# Altium footprint library MBoard.PcbLib: 16 footprints
Each footprint in its own frame and in the unit in brackets; x right, y up, seen from the top. Pads: shape width x height; smd on the part's side, far side on the other; paste and mask are expansions set on the pad; w line width, h text height; cw(c..) or ccw(c..) is an arc to the next point about the centre after c.
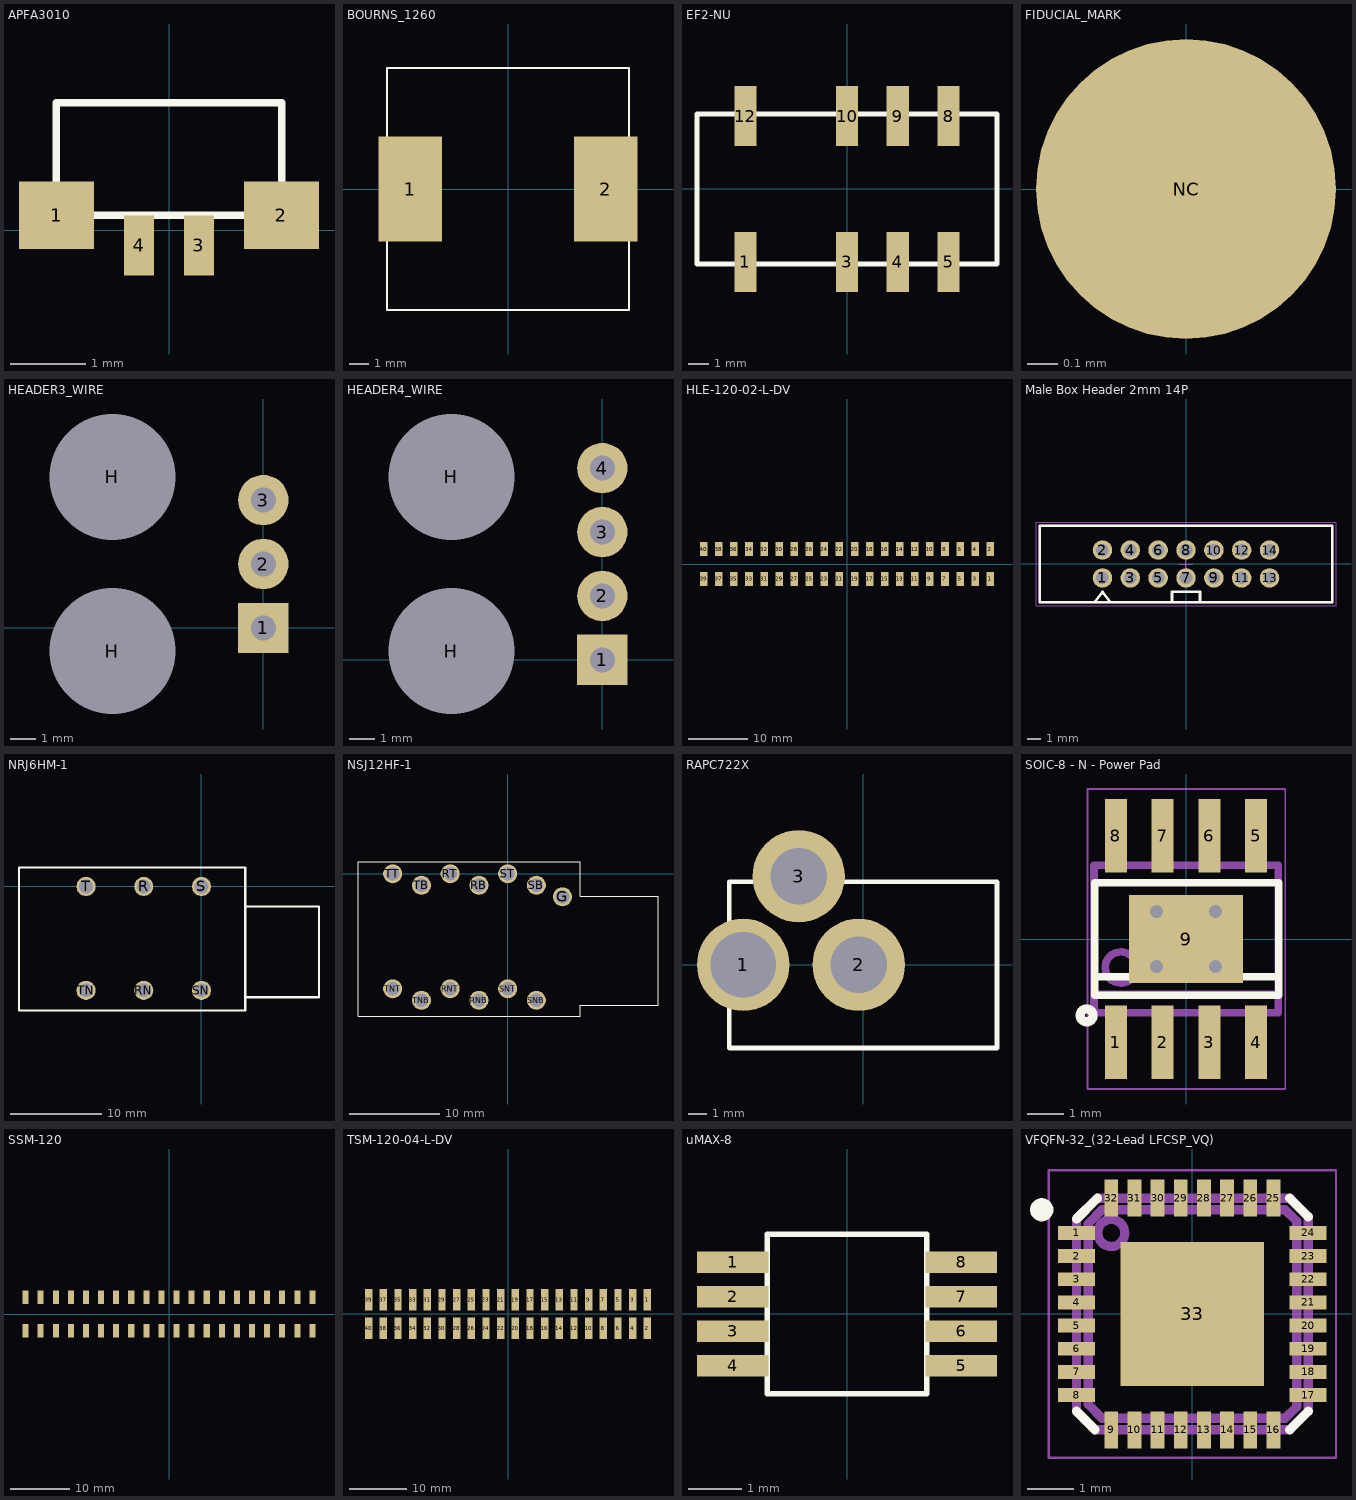
[diagram p0: the footprints below, top view; thin cyan lines are the x and y axes]

## APFA3010 [mm] "LED RGB R/A"
pads (4):
  rect 1x0.9 smd paste+0: 1(-1.5,0.2) 2(1.5,0.2)
  rect 0.4x0.8 smd paste+0: 3(0.4,-0.2) 4(-0.4,-0.2)
Top Overlay:
  lines w0.1: -1.5,0.2 -1.5,1.703 1.5,1.703 1.5,0.2 -1.5,0.2
3D body "APFA3010.STEP": height 1, standoff 0, extent -1.5,0.2 1.5,1.703

## BOURNS_1260 [mm]
pads (2):
  rect 3.3x5.4 smd paste+0: 1(-5.05,0) 2(5.05,0)
Top Overlay:
  lines w0.1: -6.25,-6.25 6.25,-6.25 6.25,6.25 -6.25,6.25 -6.25,-6.25
3D body: height 6.5, standoff 0, extent -6.25,-6.25 6.25,6.25

## EF2-NU [mm]
pads (8):
  rect 1.11x3 smd paste+0: 1(-5.08,-3.645) 3(0,-3.645) 4(2.54,-3.645) 5(5.08,-3.645) 8(5.08,3.645) 9(2.54,3.645) 10(0,3.645) 12(-5.08,3.645)
Top Overlay:
  lines w0.254: -7.5,-3.75 7.5,-3.75 7.5,3.75 -7.5,3.75 -7.5,-3.75
3D body: height 10, standoff 0, extent -7.5,-3.75 7.5,3.75

## FIDUCIAL_MARK [mm] "Fiducial Mark for automated assembly"
pads (1):
  round 1 smd paste-1 mask+0.5: NC(0,0)

## HEADER3_WIRE [mm]
pads (5):
  rect 2x2 hole 1: 1(0,0)
  round 2 hole 1: 2(0,2.54) 3(0,5.08)
  round 2 hole 5 unplated paste+0: H(-6,-0.92) H(-6,6)

## HEADER4_WIRE [mm]
pads (6):
  rect 2x2 hole 1: 1(0,0)
  round 2 hole 1: 2(0,2.54) 3(0,5.08) 4(0,7.62)
  round 2 hole 5 unplated paste+0: H(-6,0.35) H(-6,7.27)

## HLE-120-02-L-DV [mm]
pads (40):
  rect 1.27x2.29 smd paste+0: 1(24.13,-2.525) 2(24.13,2.525) 3(21.59,-2.525) 4(21.59,2.525) 5(19.05,-2.525) 6(19.05,2.525) 7(16.51,-2.525) 8(16.51,2.525) 9(13.97,-2.525) 10(13.97,2.525) 11(11.43,-2.525) 12(11.43,2.525) 13(8.89,-2.525) 14(8.89,2.525) 15(6.35,-2.525) 16(6.35,2.525) 17(3.81,-2.525) 18(3.81,2.525) 19(1.27,-2.525) 20(1.27,2.525) 21(-1.27,-2.525) 22(-1.27,2.525) 23(-3.81,-2.525) 24(-3.81,2.525) 25(-6.35,-2.525) 26(-6.35,2.525) 27(-8.89,-2.525) 28(-8.89,2.525) 29(-11.43,-2.525) 30(-11.43,2.525) 31(-13.97,-2.525) 32(-13.97,2.525) 33(-16.51,-2.525) 34(-16.51,2.525) 35(-19.05,-2.525) 36(-19.05,2.525) 37(-21.59,-2.525) 38(-21.59,2.525) 39(-24.13,-2.525) 40(-24.13,2.525)
3D body "HLE-120-02-L-DV.stp": height 3.51, standoff -0.15, extent -25.4,-3.3 25.4,3.279

## Male Box Header 2mm 14P [mm] "Male Box Header 14 poles - Pitch 2mm"
height 5.6
pads (14):
  round 1.4 hole 0.9: 1(-6,-1) 2(-6,1) 3(-4,-1) 4(-4,1) 5(-2,-1) 6(-2,1) 7(0,-1) 8(0,1) 9(2,-1) 10(2,1) 11(4,-1) 12(4,1) 13(6,-1) 14(6,1)
Top Overlay:
  lines w0.2: -6.5,-2.65 -6,-2 -5.5,-2.65 ; -1,-2.65 -1,-2 1,-2 1,-2.65 ; -10.5,-2.75 -10.5,2.75 10.5,2.75 10.5,-2.75 -10.5,-2.75
Mechanical 11:
  lines w0.2: -10.5,-2.75 10.5,-2.75 10.5,2.75 -10.5,2.75 -10.5,-2.75
  text ".designator" at -5,-0.25 h1
Mechanical 13:
  lines w0.2: -10.5,-2.75 -10.5,2.75 10.5,2.75 10.5,-2.75 -10.5,-2.75
Mechanical 15:
  lines w0.05: -0.5,0 0.5,0 ; 0,-0.5 0,0.5 ; -10.775,-3 10.775,-3 10.775,3 -10.775,3 -10.775,-3
3D body "Würth Male Box Header_14P_62501421621.stp": height 5.6, standoff -2.8, extent -10.6,-2.75 10.6,2.75

## NRJ6HM-1 [mm] "Neutronik Jack 6.35mm"
pads (6):
  round 2.1 hole 1.5: R(-6.35,0) RN(-6.35,-11.43) S(0,0) SN(0,-11.43) T(-12.7,0) TN(-12.7,-11.43)
Top Overlay:
  lines w0.254: 4.8,-12.2 12.925,-12.2 12.925,-2.2 4.8,-2.2 ; -20.075,-13.655 -20.075,2.095 4.8,2.095 4.8,-13.655 -20.075,-13.655
3D body "3D+File+NRJ6HM-1.stp": height 12.7, standoff -4, extent -20.075,-13.655 12.925,2.095

## NSJ12HF-1 [mm] "Neutronik Stacked Jack 6.35mm"
pads (13):
  round 2.1 hole 1.5: G(6.05,-2.54) RB(-3.17,-1.27) RNB(-3.17,-13.97) RNT(-6.35,-12.7) RT(-6.35,0) SB(3.174,-1.27) SNB(3.174,-13.97) SNT(0,-12.7) ST(0,0) TB(-9.52,-1.27) TNB(-9.52,-13.97) TNT(-12.7,-12.7) TT(-12.7,0)
Top Overlay:
  lines w0.1: -16.528,-15.709 -16.528,1.3 8,1.3 8,-2.5 16.6,-2.5 16.6,-14.5 8,-14.5 8,-15.709 -16.528,-15.709
3D body "3D+File+NSJ12HF-1.stp": height 31.75, standoff -4, extent -16.528,-15.709 16.372,1.291

## RAPC722X [mm]
pads (3):
  round 5 hole 3.56: 1(-6.49,0)
  round 5 hole 3.05: 2(-0.24,0) 3(-3.49,4.8)
Top Overlay:
  lines w0.254: -7.25,-4.5 -7.25,4.5 7.25,4.5 7.25,-4.5 ; -7.24,-4.5 7.235,-4.5
3D body: height 11, standoff 0, extent -7.25,-4.5 7.235,4.5

## SOIC-8 - N - Power Pad [mm] "SOIC-8 / Body 5x4x1.75mm / Pitch 1.27mm  / 8 Pins"
height 0.025
pads (9):
  rect 0.6x2 smd: 1(-1.905,-2.8) 2(-0.635,-2.8) 3(0.635,-2.8) 4(1.905,-2.8) 5(1.905,2.8) 6(0.635,2.8) 7(-0.635,2.8) 8(-1.905,2.8)
  rect 3.1x2.4 smd: 9(0,0)
via -0.8,-0.75 diameter 0.8 hole 0.35
via 0.8,-0.75 diameter 0.8 hole 0.35
via 0.8,0.75 diameter 0.8 hole 0.35
via -0.8,0.75 diameter 0.8 hole 0.35
Top Overlay:
  circle w0.25: c-2.7,-2.075 r0.175
  lines w0.203: -2.425,-1.025 2.475,-1.025 ; -2.48,-1.525 -2.48,1.525 2.52,1.525 2.52,-1.525 -2.48,-1.525
Mechanical 11:
  circle w0.203: c-1.774,-0.775 r0.424
  lines w0.203: -2.495,-1.5 2.5,-1.5 ; -2.5,-2 -2.5,2 2.5,2 2.5,-2 -2.5,-2
  text ".Designator" at -3.6,-0.325 h1
Mechanical 13:
  circle w0.203: c-1.769,-0.775 r0.424
  lines w0.203: -2.49,-1.5 2.505,-1.5 ; -2.495,-2 2.505,-2 2.505,2 -2.495,2 -2.495,-2
Mechanical 15:
  lines w0.05: -0.5,0 0.5,0 ; 0,-0.5 0,0.5 ; -2.68,-4.075 -2.68,4.075 2.695,4.075 2.695,-4.075 -2.68,-4.075
3D body "SOIC-8 - N.STEP": height 1.7, standoff 0, extent -2.45,-3 2.45,3

## SSM-120 [mm]
pads (40):
  rect 1.02x2.22 smd paste+0: 1(24.13,-2.825) 2(24.13,2.825) 3(21.59,-2.825) 4(21.59,2.825) 5(19.05,-2.825) 6(19.05,2.825) 7(16.51,-2.825) 8(16.51,2.825) 9(13.97,-2.825) 10(13.97,2.825) 11(11.43,-2.825) 12(11.43,2.825) 13(8.89,-2.825) 14(8.89,2.825) 15(6.35,-2.825) 16(6.35,2.825) 17(3.81,-2.825) 18(3.81,2.825) 19(1.27,-2.825) 20(1.27,2.825) 21(-1.27,-2.825) 22(-1.27,2.825) 23(-3.81,-2.825) 24(-3.81,2.825) 25(-6.35,-2.825) 26(-6.35,2.825) 27(-8.89,-2.825) 28(-8.89,2.825) 29(-11.43,-2.825) 30(-11.43,2.825) 31(-13.97,-2.825) 32(-13.97,2.825) 33(-16.51,-2.825) 34(-16.51,2.825) 35(-19.05,-2.825) 36(-19.05,2.825) 37(-21.59,-2.825) 38(-21.59,2.825) 39(-24.13,-2.825) 40(-24.13,2.825)
3D body "SSM-120-S-DV.stp": height 7.37, standoff -0.05, extent -25.4,-3.525 25.4,3.51

## TSM-120-04-L-DV [mm]
pads (40):
  rect 1.27x3.68 smd paste+0: 1(24.13,2.475) 2(24.13,-2.475) 3(21.59,2.475) 4(21.59,-2.475) 5(19.05,2.475) 6(19.05,-2.475) 7(16.51,2.475) 8(16.51,-2.475) 9(13.97,2.475) 10(13.97,-2.475) 11(11.43,2.475) 12(11.43,-2.475) 13(8.89,2.475) 14(8.89,-2.475) 15(6.35,2.475) 16(6.35,-2.475) 17(3.81,2.475) 18(3.81,-2.475) 19(1.27,2.475) 20(1.27,-2.475) 21(-1.27,2.475) 22(-1.27,-2.475) 23(-3.81,2.475) 24(-3.81,-2.475) 25(-6.35,2.475) 26(-6.35,-2.475) 27(-8.89,2.475) 28(-8.89,-2.475) 29(-11.43,2.475) 30(-11.43,-2.475) 31(-13.97,2.475) 32(-13.97,-2.475) 33(-16.51,2.475) 34(-16.51,-2.475) 35(-19.05,2.475) 36(-19.05,-2.475) 37(-21.59,2.475) 38(-21.59,-2.475) 39(-24.13,2.475) 40(-24.13,-2.475)
3D body "TSM-120-04-L-DV.stp": height 7.22, standoff 0.36, extent -25.4,-3.888 25.4,3.809

## uMAX-8 [mm]
pads (8):
  rect 1.35x0.4 smd paste+0: 1(-2.15,0.975) 2(-2.15,0.325) 3(-2.15,-0.325) 4(-2.15,-0.975) 5(2.15,-0.975) 6(2.15,-0.325) 7(2.15,0.325) 8(2.15,0.975)
Top Overlay:
  lines w0.1: -1.5,-1.5 1.5,-1.5 1.5,1.5 -1.5,1.5 -1.5,-1.5
3D body: height 1.1, standoff 0, extent -1.5,-1.5 1.5,1.5

## VFQFN-32_(32-Lead LFCSP_VQ) [mm] "IC Package VQFQFN-32 (32-Lead LFCSP_VQ)"
height 0.85
pads (33):
  rect 0.8x0.3 smd mask+0.1: 1(-2.5,1.75) 2(-2.5,1.25) 3(-2.5,0.75) 4(-2.5,0.25) 5(-2.5,-0.25) 6(-2.5,-0.75) 7(-2.5,-1.25) 8(-2.5,-1.75) 17(2.5,-1.75) 18(2.5,-1.25) 19(2.5,-0.75) 20(2.5,-0.25) 21(2.5,0.25) 22(2.5,0.75) 23(2.5,1.25) 24(2.5,1.75)
  rect 0.3x0.8 smd mask+0.1: 9(-1.75,-2.5) 10(-1.25,-2.5) 11(-0.75,-2.5) 12(-0.25,-2.5) 13(0.25,-2.5) 14(0.75,-2.5) 15(1.25,-2.5) 16(1.75,-2.5) 25(1.75,2.5) 26(1.25,2.5) 27(0.75,2.5) 28(0.25,2.5) 29(-0.25,2.5) 30(-0.75,2.5) 31(-1.25,2.5) 32(-1.75,2.5)
  rect 3.1x3.1 smd mask+0.1: 33(0,0)
Top Overlay:
  circle w0.25: c-3.25,2.25 r0.125
  lines w0.2: -2.5,-2.1 -2.1,-2.5 ; -2.5,2.05 -2.05,2.5 ; 2.1,-2.5 2.5,-2.1 ; 2.1,2.5 2.5,2.1
Mechanical 11:
  circle w0.2: c-1.75,1.75 r0.292
  lines w0.2: -2.5,-2.1 -2.1,-2.5 2.1,-2.5 2.5,-2.1 2.5,2.1 2.1,2.5 -2.05,2.5 -2.5,2.05 -2.5,-2.1 ; -2.25,-1.95 -1.95,-2.25 2,-2.25 2.25,-2 2.25,2 2,2.25 -1.95,2.25 -2.25,1.95 -2.25,-1.95
  text ".Designator" at -3,-0.3 h1
Mechanical 13:
  circle w0.2: c-1.75,1.75 r0.292
  lines w0.2: -2.5,-2.1 -2.5,2.05 -2.05,2.5 2.1,2.5 2.5,2.1 2.5,-2.1 2.1,-2.5 -2.1,-2.5 -2.5,-2.1 ; -2.25,-1.95 -2.25,1.95 -1.95,2.25 2,2.25 2.25,2 2.25,-2 2,-2.25 -1.95,-2.25 -2.25,-1.95
Mechanical 15:
  lines w0.05: -0.5,0 0.5,0 ; 0,-0.5 0,0.5 ; -3.1,-3.1 3.1,-3.1 3.1,3.1 -3.1,3.1 -3.1,-3.1
3D body "VFQFN-32_(32-Lead LFCSP_VQ).stp": height 1.01, standoff -0.05, extent -2.5,-2.5 2.5,2.5